# Altium schematic symbol library Schlib1.SchLib: 1 symbol
Pins are listed as number, name and electrical type; pins without a type are passive.

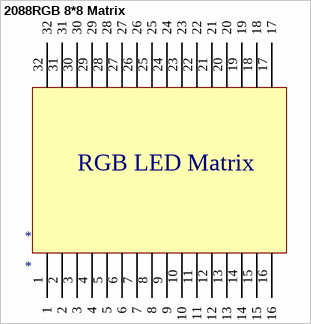
[diagram p0: symbol 2088RGB 8*8 Matrix]

## 2088RGB 8*8 Matrix
designator *
8*8 RGB Led Matrix; Model: 2088RGB-1; Schematic: http://selfbuilt.net/datasheets/2088RGB-5-datasheet.jpg
footprint PCBComponent_1
pins: 1, 2, 3, 4, 5, 6, 7, 8, 9, 10, 11, 12, 13, 14, 15, 16, 17, 18, 19, 20, 21, 22, 23, 24, 25, 26, 27, 28, 29, 30, 31, 32
text: RGB LED Matrix